# Altium footprint library LS10-13BxxR3P.PcbLib: 2 footprints
Each footprint in its own frame and in the unit in brackets; x right, y up, seen from the top. Pads: shape width x height; smd on the part's side, far side on the other; paste and mask are expansions set on the pad; w line width, h text height; cw(c..) or ccw(c..) is an arc to the next point about the centre after c.
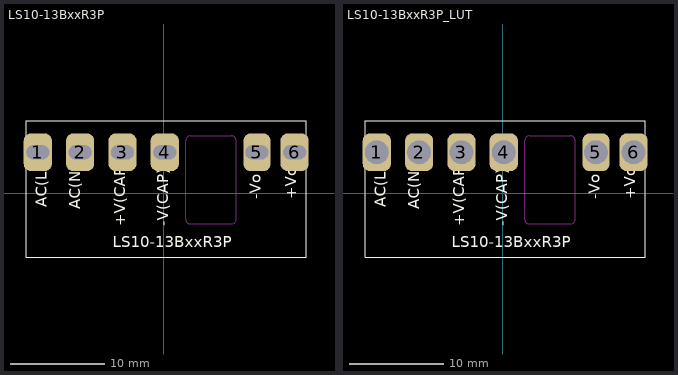
[diagram p0: the footprints below, top view; thin cyan lines are the x and y axes]

## LS10-13BxxR3P [mm]
pads (6):
  rrect50% 3x4 hole 1.5 slot 2.45 at 0 deg: 1(-13.415,4.338) 2(-8.915,4.338) 3(-4.415,4.338) 4(0.085,4.338) 6(13.885,4.338)
  rrect50% 2.84x4 hole 1.5 slot 2.45 at 0 deg: 5(9.885,4.338)
Top Overlay:
  lines w0.102: -14.665,-6.812 -14.665,7.688 15.135,7.688 15.135,-6.812 -14.665,-6.812
  text "LS10-13BxxR3P" at -5.429,-6.158 h2
  text "AC(N)" at -8.469,-1.709 h2
  text "AC(L)" at -12.016,-1.484 h2
  text "+V(CAP)" at -3.703,-3.52 h2
  text "-V(CAP)" at 0.877,-3.52 h2
  text "-Vo" at 10.718,-0.667 h2
  text "+Vo" at 14.479,-0.667 h2
Keep-Out Layer:
  lines w0.1: 2.305,-2.782 ccw(c2.805,-2.782) 2.805,-3.282 7.165,-3.282 ccw(c7.165,-2.782) 7.665,-2.782 ; 2.305,5.588 cw(c2.805,5.588) 2.805,6.088 ; 7.665,-2.772 7.665,5.588 ccw(c7.165,5.588) 7.165,6.088 2.805,6.088 ; 2.805,6.088 2.805,6.088
  lines w0.102: 2.305,-2.772 2.305,5.588
3D body "LS10-13BxxR3P.stp": height 17.12, standoff -2.92, extent -14.146,-6.474 14.701,7.126

## LS10-13BxxR3P_LUT [mm]
pads (6):
  rrect50% 3x4 hole 2.5: 1(-13.415,4.338) 2(-8.915,4.338) 3(-4.415,4.338) 4(0.085,4.338) 6(13.885,4.338)
  rrect50% 2.84x4 hole 2.5: 5(9.885,4.338)
Top Overlay:
  lines w0.102: -14.665,-6.812 -14.665,7.688 15.135,7.688 15.135,-6.812 -14.665,-6.812
  text "LS10-13BxxR3P" at -5.429,-6.158 h2
  text "AC(N)" at -8.469,-1.709 h2
  text "AC(L)" at -12.016,-1.484 h2
  text "+V(CAP)" at -3.703,-3.52 h2
  text "-V(CAP)" at 0.877,-3.52 h2
  text "-Vo" at 10.718,-0.667 h2
  text "+Vo" at 14.479,-0.667 h2
Keep-Out Layer:
  lines w0.1: 2.305,-2.782 ccw(c2.805,-2.782) 2.805,-3.282 7.165,-3.282 ccw(c7.165,-2.782) 7.665,-2.782 ; 2.305,5.588 cw(c2.805,5.588) 2.805,6.088 ; 7.665,-2.772 7.665,5.588 ccw(c7.165,5.588) 7.165,6.088 2.805,6.088 ; 2.805,6.088 2.805,6.088
  lines w0.102: 2.305,-2.772 2.305,5.588
3D body "LS10-13BxxR3P.stp": height 17.12, standoff -2.92, extent -14.146,-6.474 14.701,7.126